# Altium schematic symbol library L5972D.Schlib: 1 symbol
Pins are listed as number, name and electrical type; pins without a type are passive.

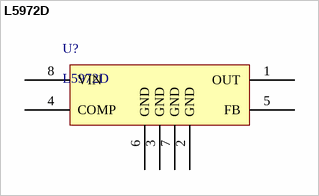
[diagram p0: symbol L5972D]

## L5972D
designator U?
IC REG BUCK ADJ 2A 8SO
pins: 1 OUT, 2 GND, 3 GND, 4 COMP, 5 FB, 6 GND, 7 GND, 8 VIN